# Altium footprint library syhaunguyen.PcbLib: 329 footprints (part 17 of 21)
Each footprint in its own frame and in the unit in brackets; x right, y up, seen from the top. Pads: shape width x height; smd on the part's side, far side on the other; paste and mask are expansions set on the pad; w line width, h text height; cw(c..) or ccw(c..) is an arc to the next point about the centre after c.
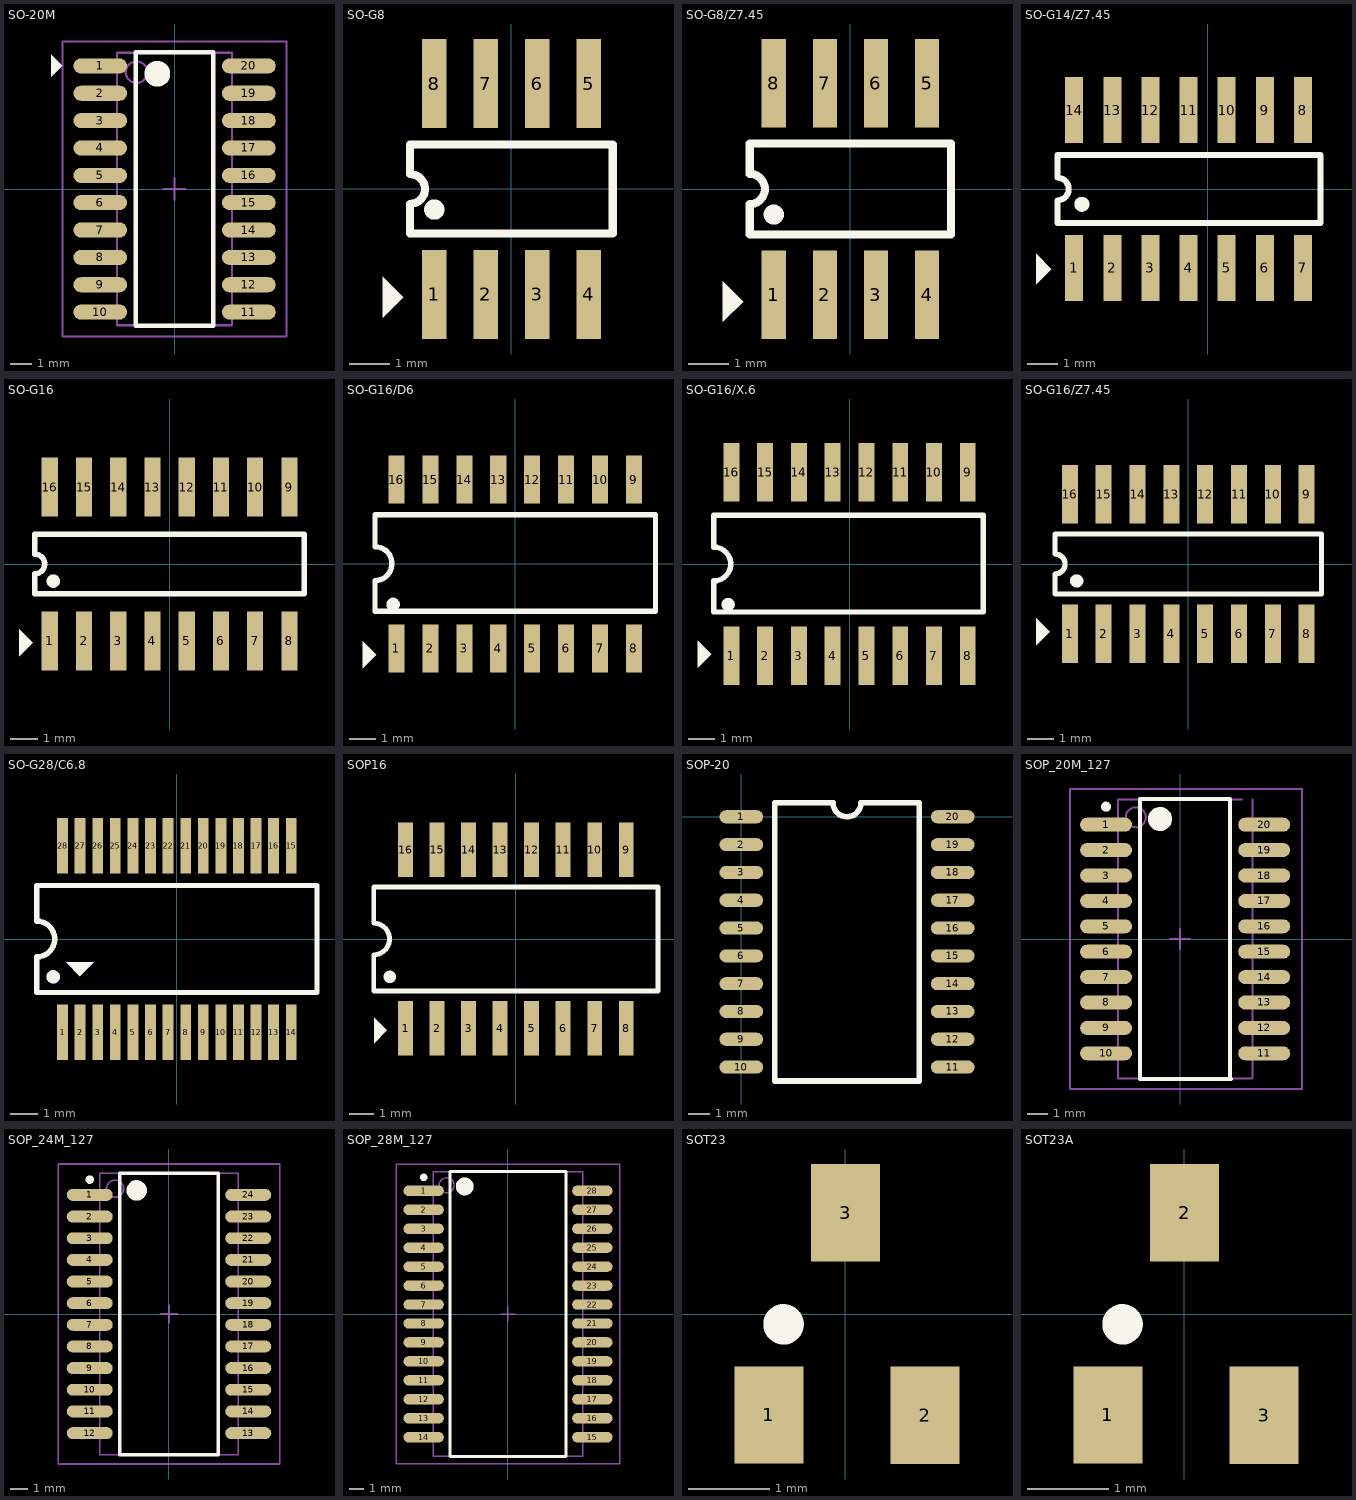
[diagram p16: the footprints below, top view; thin cyan lines are the x and y axes]

## SO-20M [mm] "SOP, 20-Leads, Body 12.6x5.3mm, Pitch 1.27mm, IPC Low Density"
height 1.96
pads (20):
  oval 2.5x0.7 smd: 1(-3.45,5.715) 2(-3.45,4.445) 3(-3.45,3.175) 4(-3.45,1.905) 5(-3.45,0.635) 6(-3.45,-0.635) 7(-3.45,-1.905) 8(-3.45,-3.175) 9(-3.45,-4.445) 10(-3.45,-5.715) 11(3.45,-5.715) 12(3.45,-4.445) 13(3.45,-3.175) 14(3.45,-1.905) 15(3.45,-0.635) 16(3.45,0.635) 17(3.45,1.905) 18(3.45,3.175) 19(3.45,4.445) 20(3.45,5.715)
Top Overlay:
  circle w0.6: c-0.8,5.35 r0.3
  region: -5.715,5.207 -5.207,5.715 -5.715,6.223
  lines w0.2: -1.8,-6.35 -1.8,6.35 1.8,6.35 1.8,-6.35 -1.8,-6.35
Mechanical 13:
  circle w0.1: c-1.765,5.425 r0.5
  lines w0.1: -2.665,-6.325 -2.665,6.325 2.665,6.325 2.665,-6.325 -2.665,-6.325
Mechanical 15:
  lines w0.1: -0.5,0 0.5,0 ; 0,-0.5 0,0.5 ; -5.2,-6.85 -5.2,6.85 5.2,6.85 5.2,-6.85 -5.2,-6.85
3D body: height 1.96, standoff 0, extent -2.665,-6.325 2.665,6.325

## SO-G8 [mm] "Small Outline; 8 Leads; Body Width 3.9 mm; Pitch 1.27 mm"
height 1.75
pads (8):
  rect 0.6x2.2 smd: 1(-1.905,-2.6) 2(-0.635,-2.6) 3(0.635,-2.6) 4(1.905,-2.6) 5(1.905,2.6) 6(0.635,2.6) 7(-0.635,2.6) 8(-1.905,2.6)
Top Overlay:
  circle w0.25: c-1.903,-0.508 r0.125
  region: -3.175,-3.175 -2.667,-2.667 -3.175,-2.159
  lines w0.2: -2.5,-1.1 -2.5,-0.367 ccw(c-2.5,0) -2.5,0.367 -2.5,1.1 2.5,1.1 2.5,-1.1 -2.5,-1.1

## SO-G8/Z7.45 [mm] "Small Outline; 8 Leads; Body Width 3.9 mm; Pitch 1.27 mm"
height 1.75
pads (8):
  rect 0.6x2.2 smd: 1(-1.905,-2.625) 2(-0.635,-2.625) 3(0.635,-2.625) 4(1.905,-2.625) 5(1.905,2.625) 6(0.635,2.625) 7(-0.635,2.625) 8(-1.905,2.625)
Top Overlay:
  circle w0.25: c-1.903,-0.635 r0.125
  region: -3.175,-3.302 -2.667,-2.794 -3.175,-2.286
  lines w0.2: -2.5,-1.125 2.5,-1.125 2.5,1.125 -2.5,1.125 -2.5,0.375 cw(c-2.5,0) -2.5,-0.375 -2.5,-1.125

## SO-G14/Z7.45 [mm] "Small Outline; 14 Leads; Body Width 3.9 mm; Pitch 1.27 mm"
height 1.75
pads (14):
  rect 0.6x2.2 smd: 1(-4.445,-2.625) 2(-3.175,-2.625) 3(-1.905,-2.625) 4(-0.635,-2.625) 5(0.635,-2.625) 6(1.905,-2.625) 7(3.175,-2.625) 8(3.175,2.625) 9(1.905,2.625) 10(0.635,2.625) 11(-0.635,2.625) 12(-1.905,2.625) 13(-3.175,2.625) 14(-4.445,2.625)
Top Overlay:
  circle w0.25: c-4.189,-0.508 r0.125
  region: -5.715,-3.175 -5.207,-2.667 -5.715,-2.159
  lines w0.2: -5,-1.125 -5,-0.375 ccw(c-5,0) -5,0.375 -5,1.125 3.759,1.125 3.759,-1.125 -5,-1.125

## SO-G16 [mm] "Small Outline; 16 Leads; Body Width 3.9 mm; Pitch 1.27 mm"
height 1.75
pads (16):
  rect 0.6x2.2 smd: 1(-4.445,-2.854) 2(-3.175,-2.854) 3(-1.905,-2.854) 4(-0.635,-2.854) 5(0.635,-2.854) 6(1.905,-2.854) 7(3.175,-2.854) 8(4.445,-2.854) 9(4.445,2.854) 10(3.175,2.854) 11(1.905,2.854) 12(0.635,2.854) 13(-0.635,2.854) 14(-1.905,2.854) 15(-3.175,2.854) 16(-4.445,2.854)
Top Overlay:
  circle w0.25: c-4.316,-0.635 r0.125
  region: -5.588,-3.429 -5.08,-2.921 -5.588,-2.413
  lines w0.2: -5,-1.1 -5,-0.367 ccw(c-5,0) -5,0.367 -5,1.1 5,1.1 5,-1.1 -5,-1.1

## SO-G16/D6 [mm] "Small Outline; 16 Leads; Body Width 5.3 mm; Pitch 1.27 mm"
height 2
pads (16):
  rect 0.6x1.8 smd: 1(-4.445,-3.168) 2(-3.175,-3.168) 3(-1.905,-3.168) 4(-0.635,-3.168) 5(0.635,-3.168) 6(1.905,-3.168) 7(3.175,-3.168) 8(4.445,-3.168) 9(4.445,3.143) 10(3.175,3.143) 11(1.905,3.143) 12(0.635,3.143) 13(-0.635,3.143) 14(-1.905,3.143) 15(-3.175,3.143) 16(-4.445,3.143)
Top Overlay:
  circle w0.25: c-4.57,-1.524 r0.125
  region: -5.715,-3.912 -5.207,-3.404 -5.715,-2.896
  lines w0.2: -5.25,-1.778 5.25,-1.778 5.25,1.829 -5.25,1.829 -5.25,0.635 cw(c-5.25,0) -5.25,-0.635 -5.25,-1.778

## SO-G16/X.6 [mm] "Small Outline; 16 Leads; Body Width 5.3 mm; Pitch 1.27 mm"
height 2
pads (16):
  rect 0.6x2.2 smd: 1(-4.445,-3.448) 2(-3.175,-3.448) 3(-1.905,-3.448) 4(-0.635,-3.448) 5(0.635,-3.448) 6(1.905,-3.448) 7(3.175,-3.448) 8(4.445,-3.448) 9(4.445,3.448) 10(3.175,3.448) 11(1.905,3.448) 12(0.635,3.448) 13(-0.635,3.448) 14(-1.905,3.448) 15(-3.175,3.448) 16(-4.445,3.448)
Top Overlay:
  circle w0.25: c-4.57,-1.524 r0.125
  region: -5.715,-3.912 -5.207,-3.404 -5.715,-2.896
  lines w0.2: -5.105,0.635 cw(c-5.105,0) -5.105,-0.635 -5.105,-1.803 5.029,-1.803 5.029,1.829 -5.105,1.829 -5.105,0.686

## SO-G16/Z7.45 [mm] "Small Outline; 16 Leads; Body Width 3.9 mm; Pitch 1.27 mm"
height 1.75
pads (16):
  rect 0.6x2.2 smd: 1(-4.445,-2.625) 2(-3.175,-2.625) 3(-1.905,-2.625) 4(-0.635,-2.625) 5(0.635,-2.625) 6(1.905,-2.625) 7(3.175,-2.625) 8(4.445,-2.625) 9(4.445,2.625) 10(3.175,2.625) 11(1.905,2.625) 12(0.635,2.625) 13(-0.635,2.625) 14(-1.905,2.625) 15(-3.175,2.625) 16(-4.445,2.625)
Top Overlay:
  circle w0.25: c-4.189,-0.635 r0.125
  region: -5.715,-3.048 -5.207,-2.54 -5.715,-2.032
  lines w0.2: -5,-1.125 -5,-0.375 ccw(c-5,0) -5,0.375 -5,1.125 5,1.125 5,-1.125 -5,-1.125

## SO-G28/C6.8 [mm] "SSOP, Plastic; 28 Leads; Body Width 5.3 mm; Pitch 0.65 mm"
height 1.99
pads (28):
  rect 0.4x2.05 smd: 1(-4.225,-3.451) 2(-3.575,-3.451) 3(-2.925,-3.451) 4(-2.275,-3.451) 5(-1.625,-3.451) 6(-0.975,-3.451) 7(-0.325,-3.451) 8(0.325,-3.451) 9(0.975,-3.451) 10(1.625,-3.451) 11(2.275,-3.451) 12(2.925,-3.451) 13(3.575,-3.451) 14(4.225,-3.451) 15(4.225,3.451) 16(3.575,3.451) 17(2.925,3.451) 18(2.275,3.451) 19(1.625,3.451) 20(0.975,3.451) 21(0.325,3.451) 22(-0.325,3.451) 23(-0.975,3.451) 24(-1.625,3.451) 25(-2.275,3.451) 26(-2.925,3.451) 27(-3.575,3.451) 28(-4.225,3.451)
Top Overlay:
  circle w0.25: c-4.57,-1.397 r0.125
  region: -4.089,-0.864 -3.581,-1.372 -3.073,-0.864
  lines w0.2: -5.175,-1.975 5.175,-1.975 5.175,1.975 -5.175,1.975 -5.175,0.658 cw(c-5.175,0) -5.175,-0.658 -5.175,-1.975
3D body: height 1.14, standoff 1.02, extent -4.809,-1.753 -4.291,-1.235
3D body: height 1.27, standoff 1.02, extent 2.794,-0.335 3.713,1.067
3D body: height 1.27, standoff 1.02, extent 1.516,-0.313 2.548,1.099
3D body: height 1.27, standoff 1.02, extent 0.254,-0.31 1.173,1.092
3D body: height 1.27, standoff 1.02, extent -0.925,-0.305 -0.094,1.101
3D body: height 1.27, standoff 1.02, extent -3.175,-0.305 -2.354,1.101
3D body: height 1.27, standoff 1.02, extent -2.032,-0.305 -1.245,1.092
3D body: height 0.25, standoff 0, extent -3.759,2.032 -3.378,3.429
3D body: height 0.25, standoff 0, extent -4.42,2.032 -4.039,3.429
3D body: height 0.25, standoff 0, extent -3.124,2.007 -2.743,3.404
3D body: height 0.25, standoff 0, extent -2.464,2.007 -2.083,3.404
3D body: height 0.25, standoff 0, extent -1.829,2.007 -1.448,3.404
3D body: height 0.25, standoff 0, extent -1.168,2.007 -0.787,3.404
3D body: height 0.25, standoff 0, extent -0.508,2.007 -0.127,3.404
3D body: height 0.25, standoff 0, extent 0.152,2.007 0.533,3.404
3D body: height 0.25, standoff 0, extent 0.762,2.007 1.143,3.404
3D body: height 0.25, standoff 0, extent 1.422,2.007 1.803,3.404
3D body: height 0.25, standoff 0, extent 2.083,2.007 2.464,3.404
3D body: height 0.25, standoff 0, extent 2.743,2.007 3.124,3.404
3D body: height 0.25, standoff 0, extent 3.378,2.007 3.759,3.404
3D body: height 0.25, standoff 0, extent 4.039,2.007 4.42,3.404
3D body: height 0.25, standoff 0, extent 4.039,-3.454 4.42,-2.057
3D body: height 0.25, standoff 0, extent 3.378,-3.454 3.759,-2.057
3D body: height 0.25, standoff 0, extent 2.743,-3.454 3.124,-2.057
3D body: height 0.25, standoff 0, extent 2.083,-3.454 2.464,-2.057
3D body: height 0.25, standoff 0, extent 1.422,-3.454 1.803,-2.057
3D body: height 0.25, standoff 0, extent 0.762,-3.454 1.143,-2.057
3D body: height 0.25, standoff 0, extent 0.152,-3.454 0.533,-2.057
3D body: height 0.25, standoff 0, extent -0.508,-3.454 -0.127,-2.057
3D body: height 0.25, standoff 0, extent -1.168,-3.454 -0.787,-2.057
3D body: height 0.25, standoff 0, extent -1.829,-3.454 -1.448,-2.057
3D body: height 0.25, standoff 0, extent -2.464,-3.454 -2.083,-2.057
3D body: height 0.25, standoff 0, extent -3.124,-3.454 -2.743,-2.057
3D body: height 1.02, standoff 0.23, extent -5.156,-1.981 5.258,2.083
3D body: height 0.25, standoff 0, extent -4.42,-3.429 -4.039,-2.032
3D body: height 0.25, standoff 0, extent -3.759,-3.429 -3.378,-2.032

## SOP16 [mm] "Small Outline; 16 Leads; Body Width 5.6 mm; Pitch 1.27 mm"
height 2
pads (16):
  rect 0.6x2.2 smd: 1(-4.445,-3.6) 2(-3.175,-3.6) 3(-1.905,-3.6) 4(-0.635,-3.6) 5(0.635,-3.6) 6(1.905,-3.6) 7(3.175,-3.6) 8(4.445,-3.6) 9(4.445,3.6) 10(3.175,3.6) 11(1.905,3.6) 12(0.635,3.6) 13(-0.635,3.6) 14(-1.905,3.6) 15(-3.175,3.6) 16(-4.445,3.6)
Top Overlay:
  circle w0.25: c-5.078,-1.524 r0.125
  region: -5.715,-4.191 -5.207,-3.683 -5.715,-3.175
  lines w0.2: -5.725,-2.1 5.725,-2.1 5.725,2.1 -5.725,2.1 -5.725,0.635 cw(c-5.725,0) -5.725,-0.635 -5.725,-2.1

## SOP-20 [mm]
pads (20):
  oval 2x0.6 smd: 1(0,0) 2(0,-1.27) 3(0,-2.54) 4(0,-3.81) 5(0,-5.08) 6(0,-6.35) 7(0,-7.62) 8(0,-8.89) 9(0,-10.16) 10(0,-11.43) 11(9.652,-11.43) 12(9.652,-10.16) 13(9.652,-8.89) 14(9.652,-7.62) 15(9.652,-6.35) 16(9.652,-5.08) 17(9.652,-3.81) 18(9.652,-2.54) 19(9.652,-1.27) 20(9.652,0)
Top Overlay:
  lines w0.254: 1.524,-12.065 8.128,-12.065 8.128,0.635 5.461,0.635 cw(c4.826,0.635) 4.191,0.635 1.524,0.635 1.524,-12.065

## SOP_20M_127 [mm] "SOP, 20-Leads, Body 13.4x6.2mm, Pitch 1.27mm, IPC Low Density"
height 2
pads (20):
  oval 2.6x0.7 smd: 1(-3.7,5.715) 2(-3.7,4.445) 3(-3.7,3.175) 4(-3.7,1.905) 5(-3.7,0.635) 6(-3.7,-0.635) 7(-3.7,-1.905) 8(-3.7,-3.175) 9(-3.7,-4.445) 10(-3.7,-5.715) 11(4.208,-5.715) 12(4.208,-4.445) 13(4.208,-3.175) 14(4.208,-1.905) 15(4.208,-0.635) 16(4.208,0.635) 17(4.208,1.905) 18(4.208,3.175) 19(4.208,4.445) 20(4.208,5.715)
Top Overlay:
  circle w0.6: c-1,6 r0.3
  circle w0.25: c-3.7,6.615 r0.125
  lines w0.2: 2.413,7 -2,7 -2,-7 2.54,-7 ; 2.508,-7 2.508,7
Mechanical 13:
  circle w0.1: c-2.21,6.085 r0.5
  lines w0.1: 3.11,6.985 -3.11,6.985 -3.11,-6.985 3.556,-6.985 ; 3.618,-6.985 3.618,6.985
Mechanical 15:
  lines w0.1: -0.5,0 0.5,0 ; 0,-0.5 0,0.5 ; -5.5,-7.5 6.096,-7.5 6.096,7.5 -5.5,7.5 -5.5,-7.5
3D body: height 2, standoff 0, extent -3.11,-6.985 3.556,6.985

## SOP_24M_127 [mm] "SOP, 24-Leads, Body 15.6x8.1mm, Pitch 1.27mm, IPC Low Density"
height 2.5
pads (24):
  oval 2.7x0.7 smd: 1(-4.65,6.985) 2(-4.65,5.715) 3(-4.65,4.445) 4(-4.65,3.175) 5(-4.65,1.905) 6(-4.65,0.635) 7(-4.65,-0.635) 8(-4.65,-1.905) 9(-4.65,-3.175) 10(-4.65,-4.445) 11(-4.65,-5.715) 12(-4.65,-6.985) 13(4.65,-6.985) 14(4.65,-5.715) 15(4.65,-4.445) 16(4.65,-3.175) 17(4.65,-1.905) 18(4.65,-0.635) 19(4.65,0.635) 20(4.65,1.905) 21(4.65,3.175) 22(4.65,4.445) 23(4.65,5.715) 24(4.65,6.985)
Top Overlay:
  circle w0.25: c-4.65,7.885 r0.125
  circle w0.6: c-1.9,7.25 r0.3
  lines w0.2: -2.9,-8.25 -2.9,8.25 2.9,8.25 2.9,-8.25 -2.9,-8.25
Mechanical 13:
  circle w0.1: c-3.165,7.355 r0.5
  lines w0.1: -4.065,-8.255 -4.065,8.255 4.065,8.255 4.065,-8.255 -4.065,-8.255
Mechanical 15:
  lines w0.1: -0.5,0 0.5,0 ; 0,-0.5 0,0.5 ; -6.5,-8.8 -6.5,8.8 6.5,8.8 6.5,-8.8 -6.5,-8.8
3D body: height 2.7, standoff -0.11, extent -4.949,-7.853 5.051,7.747
3D body: height 2.79, standoff 0.25, extent -2.654,6.318 -1.778,7.118
3D body: height 2.79, standoff 2.54, extent -0.542,7.18 0.615,7.696

## SOP_28M_127 [mm] "SOP, 28-Leads, Body 18.1x8.6mm, Pitch 1.27mm, IPC Low Density"
height 3.05
pads (28):
  oval 2.7x0.7 smd: 1(-5.65,8.255) 2(-5.65,6.985) 3(-5.65,5.715) 4(-5.65,4.445) 5(-5.65,3.175) 6(-5.65,1.905) 7(-5.65,0.635) 8(-5.65,-0.635) 9(-5.65,-1.905) 10(-5.65,-3.175) 11(-5.65,-4.445) 12(-5.65,-5.715) 13(-5.65,-6.985) 14(-5.65,-8.255) 15(5.65,-8.255) 16(5.65,-6.985) 17(5.65,-5.715) 18(5.65,-4.445) 19(5.65,-3.175) 20(5.65,-1.905) 21(5.65,-0.635) 22(5.65,0.635) 23(5.65,1.905) 24(5.65,3.175) 25(5.65,4.445) 26(5.65,5.715) 27(5.65,6.985) 28(5.65,8.255)
Top Overlay:
  circle w0.25: c-5.65,9.155 r0.125
  circle w0.6: c-2.9,8.55 r0.3
  lines w0.2: -3.9,-9.55 -3.9,9.55 3.9,9.55 3.9,-9.55 -3.9,-9.55
Mechanical 13:
  circle w0.1: c-4.115,8.625 r0.5
  lines w0.1: -5.015,-9.525 -5.015,9.525 5.015,9.525 5.015,-9.525 -5.015,-9.525
Mechanical 15:
  lines w0.1: -0.5,0 0.5,0 ; 0,-0.5 0,0.5 ; -7.5,-10.05 -7.5,10.05 7.5,10.05 7.5,-10.05 -7.5,-10.05
3D body: height 2.64, standoff 0, extent -5.336,-9.04 5.334,9.04

## SOT23 [mm] "SOT 23 _ 1-3-2"
height 1.27
pads (3):
  rect 0.85x1.2 smd: 1(-0.94,-1.245) 2(0.985,-1.25) 3(0.005,1.25)
Top Overlay:
  circle w0.25: c-0.76,-0.127 r0.125
3D body: height 1.06, standoff -0.04, extent -1.475,-1.326 1.525,1.174

## SOT23A [mm] "SOT 23A"
height 1.27
pads (3):
  rect 0.85x1.2 smd: 1(-0.94,-1.245) 2(0.005,1.25) 3(0.985,-1.25)
Top Overlay:
  circle w0.25: c-0.76,-0.127 r0.125
3D body: height 1.06, standoff -0.04, extent -1.5,-1.301 1.5,1.199